# Altium integrated library EEETG1J470P.IntLib: 1 symbol
Pins are listed as number, name and electrical type; pins without a type are passive.

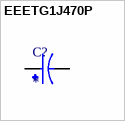
[diagram p0: symbol EEETG1J470P]

## EEETG1J470P
designator C?
Cap Aluminum 47uF 63V 20% (10 X 10.2mm) SMD 0.8 Ohm 150mA 2000 hr 125Â°C T/R; MF: Panasonic Electronic; MP: EEE-TG1J470P; Purchase-URL: https://pricing.snapeda.com/search/part/EEE-TG1J470P/?ref=eda; Price: None; SnapEDA_Link: https://www.snapeda.com/parts/EEE-TG1J470P/Panasonic+Electronic+Components/view-part/?ref=snap; Check_prices: https://www.snapeda.com/parts/EEE-TG1J470P/Panasonic+Electronic+Components/view-part/?ref=eda; Package: RADIAL-2 Panasonic; Availability: In Stock; Value: *
footprint CAP_EEETG1J470P
pins: 1, 2